# Altium schematic symbol library AMZ_Altium_Lib.SchLib: 396 symbols (part 3 of 3)
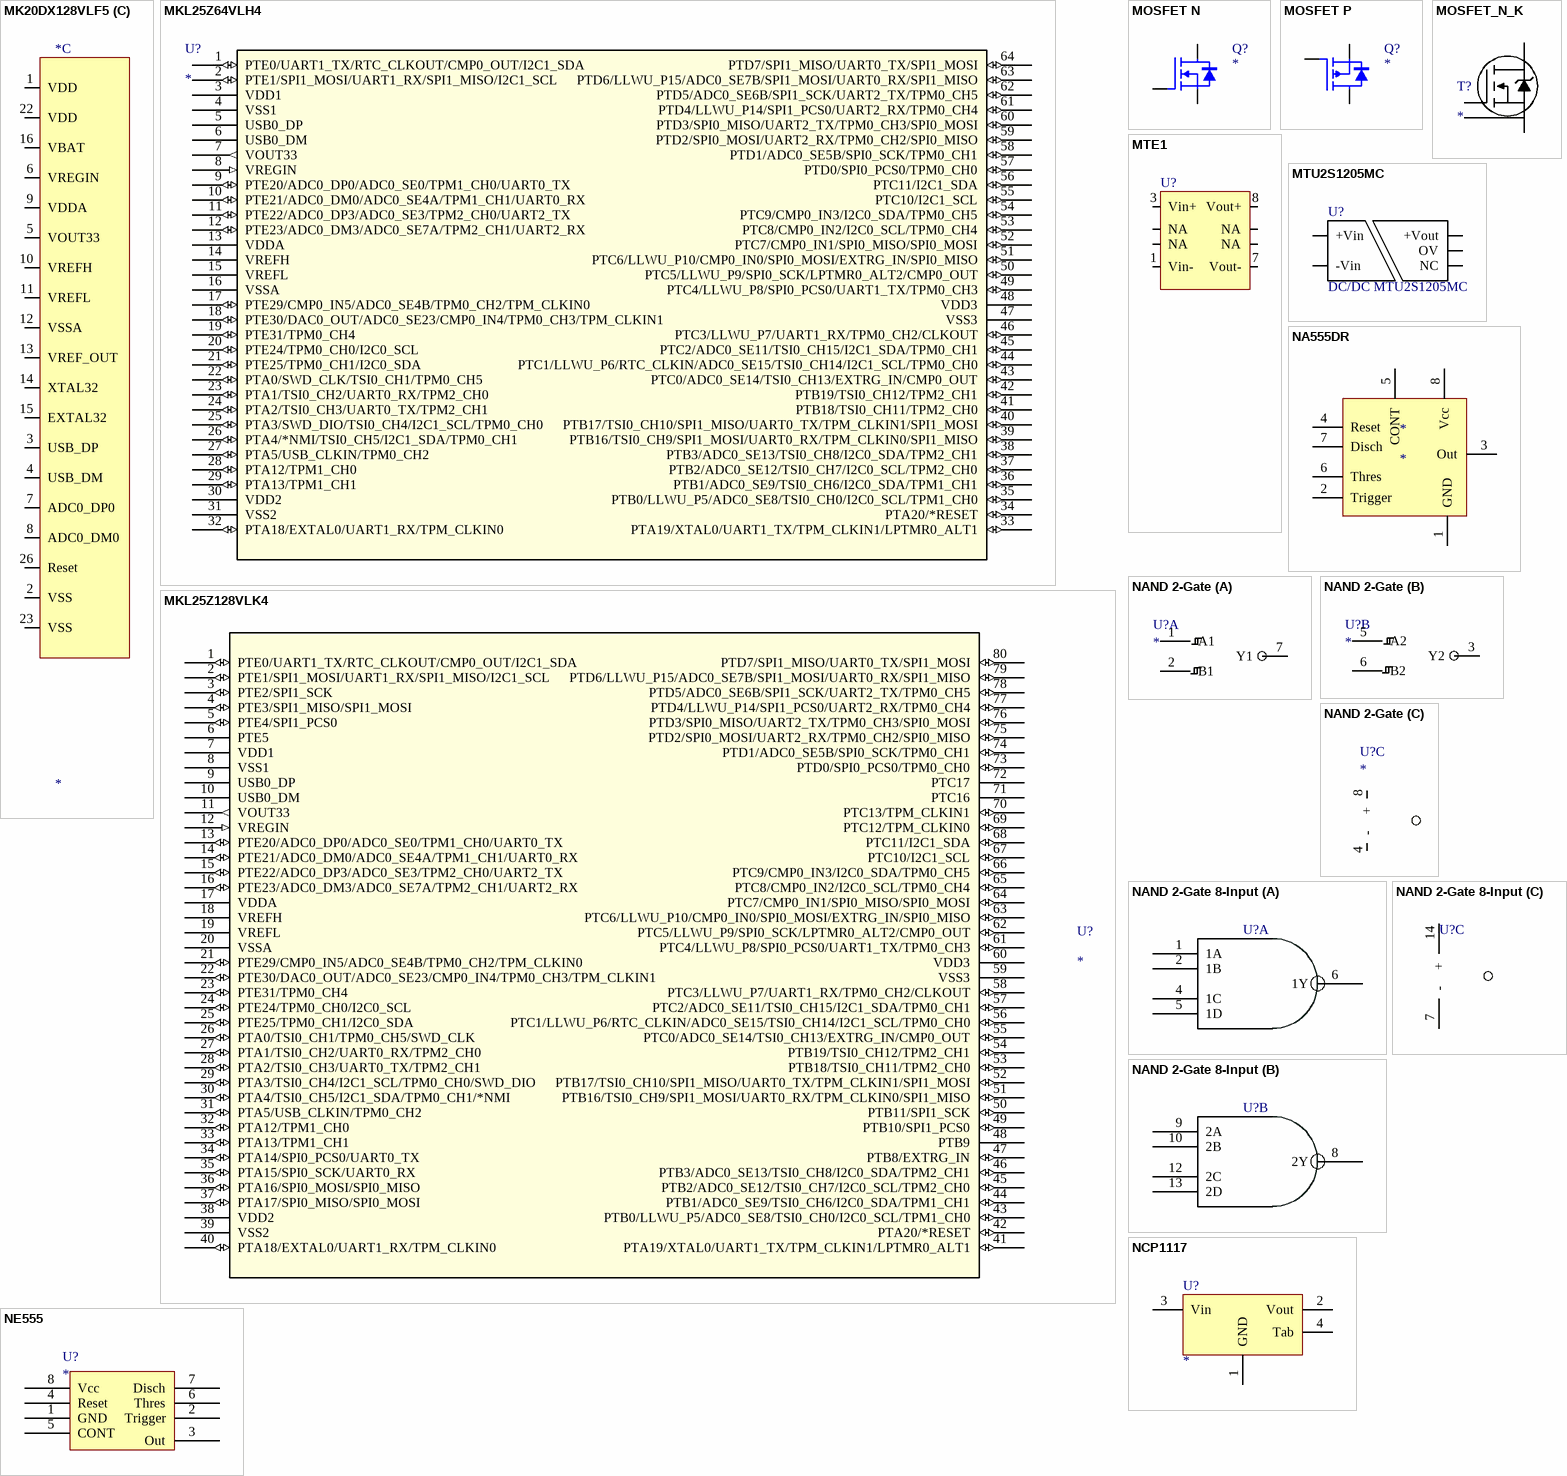
[diagram p21: symbols MK20DX128VLF5 to NE555]

## MKL25Z128VLK4
designator U?
Imported; Manufacturer_Part_Number: mkl25z128vlk4; Vendor: FREESCALE; CPU: ARM Cortex-M0+; Max_Frequency: 48; Flash_KB: 128; SRAM_KB: 16; Pin_Count: 80; Package: LQFP; RefDes: RefDes; Type: Type; Value: Value
footprint 98ASS23174W
pins: 1 PTE0/UART1_TX/RTC_CLKOUT/CMP0_OUT/I2C1_SDA (io), 2 PTE1/SPI1_MOSI/UART1_RX/SPI1_MISO/I2C1_SCL (io), 3 PTE2/SPI1_SCK (io), 4 PTE3/SPI1_MISO/SPI1_MOSI (io), 5 PTE4/SPI1_PCS0 (io), 6 PTE5, 7 VDD1 (power), 8 VSS1 (power), 9 USB0_DP, 10 USB0_DM, 11 VOUT33 (out), 12 VREGIN (in), 13 PTE20/ADC0_DP0/ADC0_SE0/TPM1_CH0/UART0_TX (io), 14 PTE21/ADC0_DM0/ADC0_SE4A/TPM1_CH1/UART0_RX (io), 15 PTE22/ADC0_DP3/ADC0_SE3/TPM2_CH0/UART2_TX (io), 16 PTE23/ADC0_DM3/ADC0_SE7A/TPM2_CH1/UART2_RX (io), 17 VDDA (power), 18 VREFH (power), 19 VREFL (power), 20 VSSA (power), 21 PTE29/CMP0_IN5/ADC0_SE4B/TPM0_CH2/TPM_CLKIN0 (io), 22 PTE30/DAC0_OUT/ADC0_SE23/CMP0_IN4/TPM0_CH3/TPM_CLKIN1 (io), 23 PTE31/TPM0_CH4 (io), 24 PTE24/TPM0_CH0/I2C0_SCL (io), 25 PTE25/TPM0_CH1/I2C0_SDA (io), 26 PTA0/TSI0_CH1/TPM0_CH5/SWD_CLK (io), 27 PTA1/TSI0_CH2/UART0_RX/TPM2_CH0 (io), 28 PTA2/TSI0_CH3/UART0_TX/TPM2_CH1 (io), 29 PTA3/TSI0_CH4/I2C1_SCL/TPM0_CH0/SWD_DIO (io), 30 PTA4/TSI0_CH5/I2C1_SDA/TPM0_CH1/*NMI (io), 31 PTA5/USB_CLKIN/TPM0_CH2 (io), 32 PTA12/TPM1_CH0 (io), 33 PTA13/TPM1_CH1 (io), 34 PTA14/SPI0_PCS0/UART0_TX (io), 35 PTA15/SPI0_SCK/UART0_RX (io), 36 PTA16/SPI0_MOSI/SPI0_MISO (io), 37 PTA17/SPI0_MISO/SPI0_MOSI (io), 38 VDD2 (power), 39 VSS2 (power), 40 PTA18/EXTAL0/UART1_RX/TPM_CLKIN0 (io), 41 PTA19/XTAL0/UART1_TX/TPM_CLKIN1/LPTMR0_ALT1 (io), 42 PTA20/*RESET (io), 43 PTB0/LLWU_P5/ADC0_SE8/TSI0_CH0/I2C0_SCL/TPM1_CH0 (io), 44 PTB1/ADC0_SE9/TSI0_CH6/I2C0_SDA/TPM1_CH1 (io), 45 PTB2/ADC0_SE12/TSI0_CH7/I2C0_SCL/TPM2_CH0 (io), 46 PTB3/ADC0_SE13/TSI0_CH8/I2C0_SDA/TPM2_CH1 (io), 47 PTB8/EXTRG_IN (io), 48 PTB9, 49 PTB10/SPI1_PCS0 (io), 50 PTB11/SPI1_SCK (io), 51 PTB16/TSI0_CH9/SPI1_MOSI/UART0_RX/TPM_CLKIN0/SPI1_MISO (io), 52 PTB17/TSI0_CH10/SPI1_MISO/UART0_TX/TPM_CLKIN1/SPI1_MOSI (io), 53 PTB18/TSI0_CH11/TPM2_CH0 (io), 54 PTB19/TSI0_CH12/TPM2_CH1 (io), 55 PTC0/ADC0_SE14/TSI0_CH13/EXTRG_IN/CMP0_OUT (io), 56 PTC1/LLWU_P6/RTC_CLKIN/ADC0_SE15/TSI0_CH14/I2C1_SCL/TPM0_CH0 (io), 57 PTC2/ADC0_SE11/TSI0_CH15/I2C1_SDA/TPM0_CH1 (io), 58 PTC3/LLWU_P7/UART1_RX/TPM0_CH2/CLKOUT (io), 59 VSS3 (power), 60 VDD3 (power), 61 PTC4/LLWU_P8/SPI0_PCS0/UART1_TX/TPM0_CH3 (io), 62 PTC5/LLWU_P9/SPI0_SCK/LPTMR0_ALT2/CMP0_OUT (io), 63 PTC6/LLWU_P10/CMP0_IN0/SPI0_MOSI/EXTRG_IN/SPI0_MISO (io), 64 PTC7/CMP0_IN1/SPI0_MISO/SPI0_MOSI (io), 65 PTC8/CMP0_IN2/I2C0_SCL/TPM0_CH4 (io), 66 PTC9/CMP0_IN3/I2C0_SDA/TPM0_CH5 (io), 67 PTC10/I2C1_SCL (io), 68 PTC11/I2C1_SDA (io), 69 PTC12/TPM_CLKIN0 (io), 70 PTC13/TPM_CLKIN1 (io), 71 PTC16, 72 PTC17, 73 PTD0/SPI0_PCS0/TPM0_CH0 (io), 74 PTD1/ADC0_SE5B/SPI0_SCK/TPM0_CH1 (io), 75 PTD2/SPI0_MOSI/UART2_RX/TPM0_CH2/SPI0_MISO (io), 76 PTD3/SPI0_MISO/UART2_TX/TPM0_CH3/SPI0_MOSI (io), 77 PTD4/LLWU_P14/SPI1_PCS0/UART2_RX/TPM0_CH4 (io), 78 PTD5/ADC0_SE6B/SPI1_SCK/UART2_TX/TPM0_CH5 (io), 79 PTD6/LLWU_P15/ADC0_SE7B/SPI1_MOSI/UART0_RX/SPI1_MISO (io), 80 PTD7/SPI1_MISO/UART0_TX/SPI1_MOSI (io)

## MOSFET N
designator Q?
footprint SON3x3 (VSON-CLIP (DQG))
footprint SON5x6 (VSONP (DQJ))
pins: D DRAIN, G GATE, S SOURCE

## MOSFET P
designator Q?
pins: D DRAIN, G GATE, S SOURCE

## MOSFET_N_K
designator T?
footprint TO-247-4
footprint TO-247-4_Cree (4 Lead TO-247 with Kelvin source connection)
footprint TO-247-4_Cree_3mm (4 Lead TO-247 with Kelvin source connection, Leads shortened to 3mm)
pins: D, G, K, S

## MTE1
designator U?
footprint MTE1
pins: 1 Vin-, 3 Vin+, 5 NA, 7 Vout-, 8 Vout+, 10 NA, 12 NA, 14 NA

## MTU2S1205MC
designator U?, comment DC/DC MTU2S1205MC
Isolated 2W Single & Dual Output SM DC/DC Converters; ComponentLink1Description: Datasheet; ComponentLink1URL: https://power.murata.com/data/power/ncl/kdc_mtu2.pdf
pins: 1 +Vin (power), 3 -Vin (power), 4 NC (power), 5 OV, 6 +Vout (power)

## NA555DR
designator *
footprint SOIC-8-T (Exposed Thermal Pad)
pins: 1 GND, 2 Trigger, 3 Out, 4 Reset, 5 CONT, 6 Thres, 7 Disch, 8 Vcc

## NAND 2-Gate
designator U?
part A pins: 1 A1, 2 B1, 7 Y1
part B pins: 3 Y2, 5 A2, 6 B2
part C pins: 4 -, 8 +

## NAND 2-Gate 8-Input
designator U?, comment SN74F20D  (value not drawn)
NAND 8 input 2 output
footprint SOIC-14
part A pins: 1 1A, 2 1B, 4 1C, 5 1D, 6 1Y
part B pins: 8 2Y, 9 2A, 10 2B, 12 2C, 13 2D
part C pins: 7 -, 14 +

## NCP1117
designator U?
Voltage Regulator, Linear Regler
footprint SOT-223-3
pins: 1 GND (power), 2 Vout (power), 3 Vin (power), 4 Tab (power)

## NE555
designator U?
pins: 1 GND, 2 Trigger, 3 Out, 4 Reset, 5 CONT, 6 Thres, 7 Disch, 8 Vcc

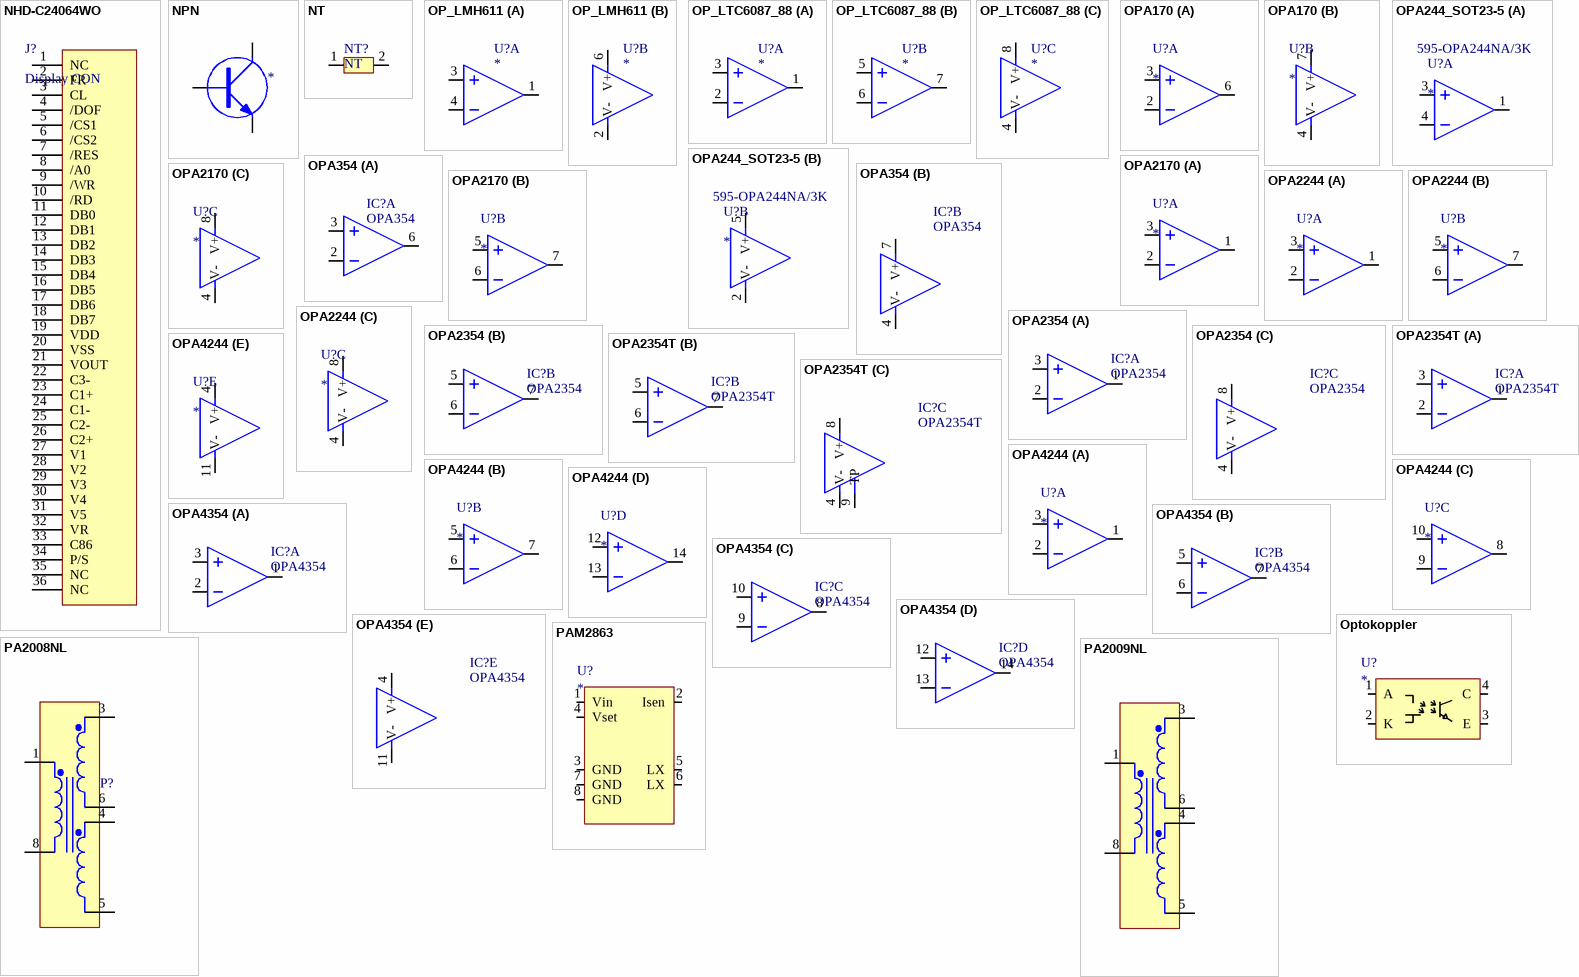
[diagram p15: symbols NHD-C24064WO to PAM2863]

## NHD-C24064WO
designator J?, comment Display CON
NHD-C24064WO
footprint CON_54132-3633 (FFC/FPC Connector)
pins: 1 NC, 2 FR, 3 CL, 4 /DOF, 5 /CS1, 6 /CS2, 7 /RES, 8 /A0, 9 /WR, 10 /RD, 11 DB0, 12 DB1, 13 DB2, 14 DB3, 15 DB4, 16 DB5, 17 DB6, 18 DB7, 19 VDD, 20 VSS, 21 VOUT, 22 C3-, 23 C1+, 24 C1-, 25 C2-, 26 C2+, 27 V1, 28 V2, 29 V3, 30 V4, 31 V5, 32 VR, 33 C86, 34 P/S, 35 NC, 36 NC

## NPN
designator ?
footprint SOT-23; pin to pad B>1 C>3 E>2
pins: B, C, E

## NT
designator NT?  (net tie, no BOM)
Net Tie
footprint NT_5mil_10mil (Net tie, width 5mil, length 10mil)
footprint NT_8mil_16mil (Net tie, width 8mil, length 16mil)
footprint NT_10mil_20mil (Net tie, width 10mil, length 20mil)
footprint NT_10mil_40mil (Net tie, width 10mil, length 40mil)
footprint NT_15mil_30mil (Net tie, width 15mil, length 30mil)
footprint NT_20mil_40mil (Net tie, width 20mil, length 40mil)
footprint NT_20mil_50mil (Net tie, width 20mil, length 50mil)
footprint NT_50mil_100mil (Net tie, width 50mil, length 100mil)
footprint NT_100mil_200_mil (Net tie, width 100mil, length 200mil)
pins: 1, 2

## OP_LMH611
designator U?
LMH6611
footprint SOT23-6
part A pins: 1 Out D, 3 +In D, 4 -In D
part B pins: 2 V-, 6 V+

## OP_LTC6087_88
designator U?
OPAx170  36-V, Single-Supply,  SOT553,  Low-Power  Operational  Amplifiers  Value Line Series
footprint MSOP-8-0.65
part A pins: 1 Out A, 2 -In A, 3 +In A
part B pins: 5 +In B, 6 -In B, 7 Out B
part C pins: 4 V-, 8 V+

## OPA170
designator U?
OPA170
footprint SO-8
part A pins: 2 -In D, 3 +In D, 6 Out D
part B pins: 4 V-, 7 V+

## OPA244_SOT23-5
designator U?  Supplier Part Number 1: 595-OPA244NA/3K
Single OPERATIONAL AMPLIFIERS, Single Supply: 2.2V to 36V; Supplier 1: Mouser
footprint SOT23-5
part A pins: 1 Out D, 3 +In D, 4 -In D
part B pins: 2 V-, 5 V+

## OPA354
designator IC?
footprint DGK-8 (Exposed Thermal Pad)
part A pins: 2 -In A, 3 +In A, 6 Out A
part B pins: 4 V-, 7 V+

## OPA2170
designator U?
OPAx170  36-V, Single-Supply,  SOT553,  Low-Power  Operational  Amplifiers  Value Line Series
footprint SO-8
part A pins: 1 Out D, 2 -In D, 3 +In D
part B pins: 5 +In D, 6 -In D, 7 Out D
part C pins: 4 V-, 8 V+

## OPA2244
designator U?
Dual OPERATIONAL AMPLIFIERS, Single Supply: 2.2V to 36V,  Dual Supply: ±1.1V to ±18V
footprint SO-8
part A pins: 1 Out D, 2 -In D, 3 +In D
part B pins: 5 +In D, 6 -In D, 7 Out D
part C pins: 4 V-, 8 V+

## OPA2354
designator IC?
footprint DGK-8 (Exposed Thermal Pad)
part A pins: 1 Out A, 2 -In A, 3 +In A
part B pins: 5 -In B, 6 - In B, 7 Out B
part C pins: 4 V-, 8 V+

## OPA2354T
designator IC?
footprint SOIC-8-T (Exposed Thermal Pad)
part A pins: 1 Out A, 2 -In A, 3 +In A
part B pins: 5 -In B, 6 - In B, 7 Out B
part C pins: 4 V-, 8 V+, 9 TP

## OPA4244
designator U?
Quad OPERATIONAL AMPLIFIERS, Single Supply: 2.2V to 36V,  Dual Supply: ±1.1V to ±18V
footprint TSSOP14
part A pins: 1 Out A, 2 -In A, 3 +In A
part B pins: 5 +In B, 6 -In B, 7 Out B
part C pins: 8 Out C, 9 -In C, 10 +In C
part D pins: 12 +In D, 13 -In D, 14 Out D
part E pins: 4 V+, 11 V-

## OPA4354
designator IC?
footprint SO-14
part A pins: 1 Out A, 2 -In A, 3 +In A
part B pins: 5 -In B, 6 - In B, 7 Out B
part C pins: 8 OUT C, 9 - IN C, 10 +IN C
part D pins: 12 +In D, 13 -In D, 14 Out D
part E pins: 4 V+, 11 V-

## Optokoppler
designator U?
footprint HMH2801
pins: 1 A, 2 K, 3 E, 4 C

## PA2008NL
designator P?
2:1:1 High Isolation Power Transformer; ComponentLink1Description: Datasheet; ComponentLink1URL: https://productfinder.pulseeng.com/product/PA2009NL
footprint PA2009NL (PA2009NL Footprint)
pins: 1 Pri+, 3 Sec+, 4 SecMid, 5 Sec-, 6 SecMid, 8 Pri-

## PA2009NL
designator P?
2.5:1:1 High Isolation Power Transformer; ComponentLink1Description: Datasheet; ComponentLink1URL: https://productfinder.pulseeng.com/product/PA2009NL
footprint PA2009NL (PA2009NL Footprint)
pins: 1 Pri+, 3 Sec+, 4 SecMid, 5 Sec-, 6 SecMid, 8 Pri-

## PAM2863
designator U?
2A LED Driver
footprint SO8
pins: 1 Vin, 2 Isen, 3 GND, 4 Vset, 5 LX, 6 LX, 7 GND, 8 GND

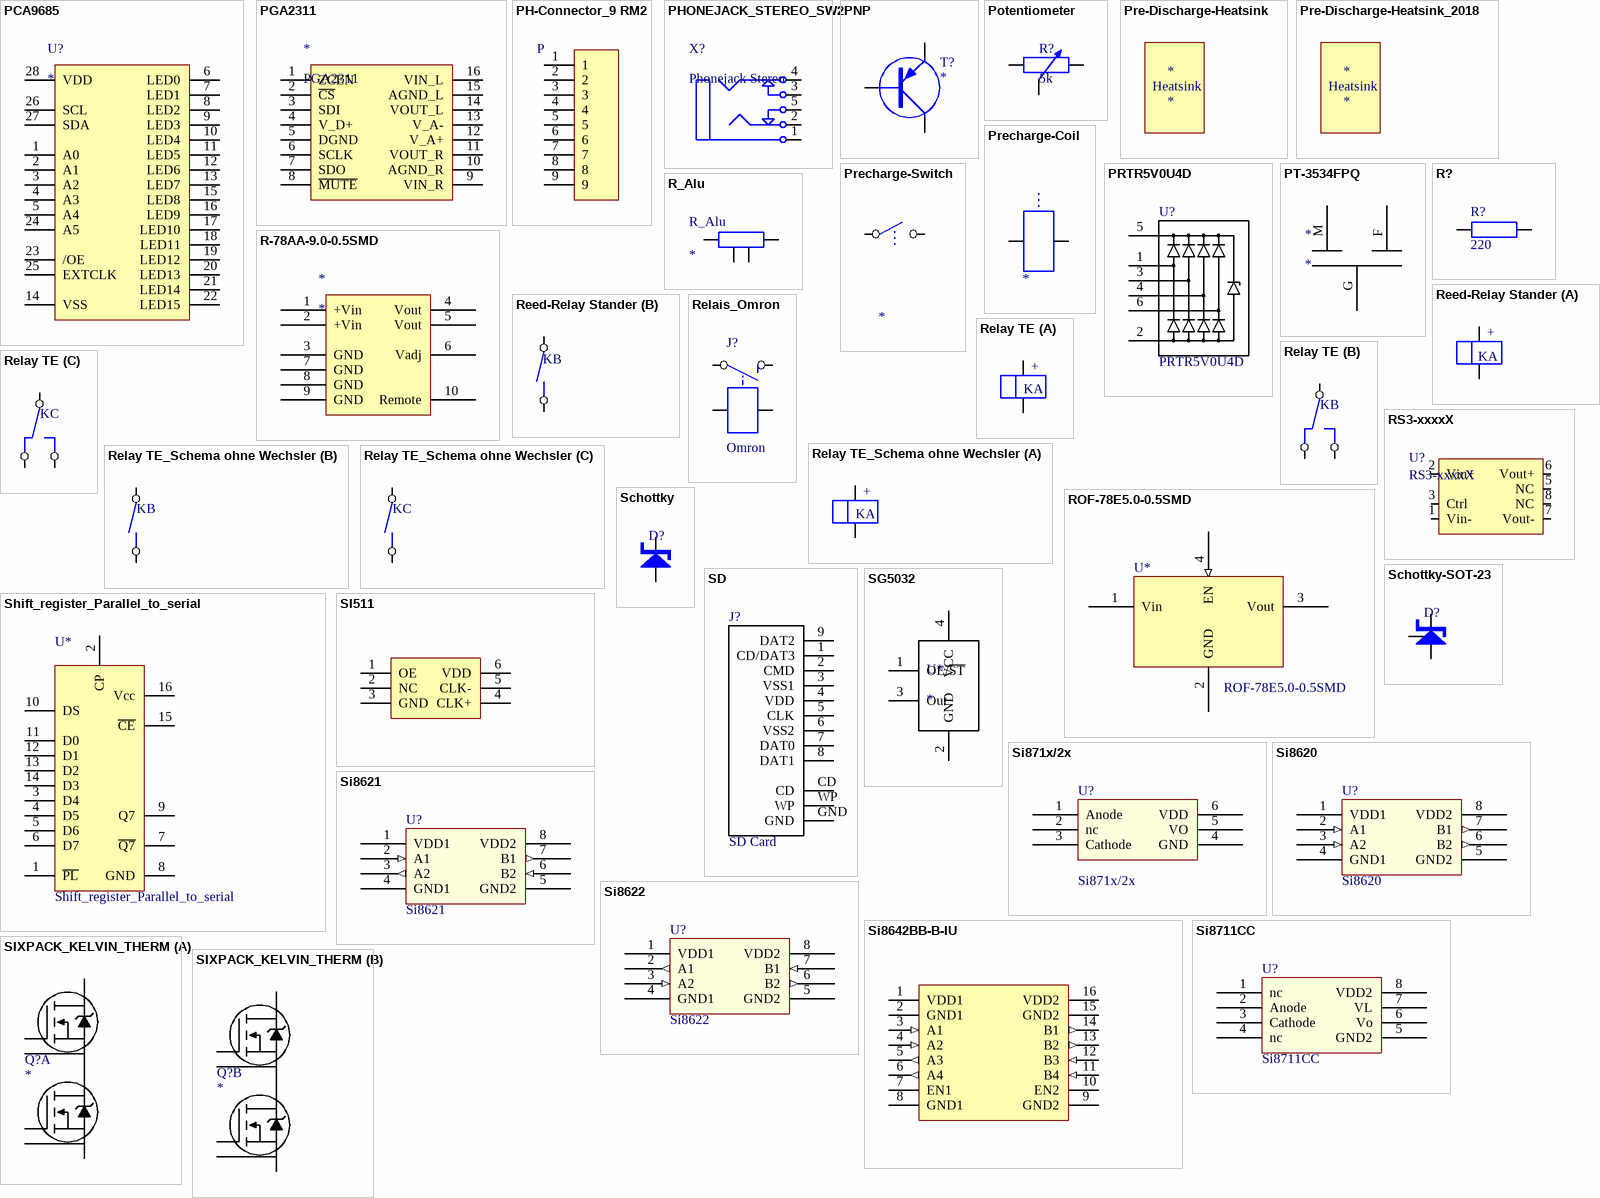
[diagram p16: symbols PCA9685 to SIXPACK_KELVIN_THERM]

## PCA9685
designator U?
pins: 1 A0, 2 A1, 3 A2, 4 A3, 5 A4, 6 LED0, 7 LED1, 8 LED2, 9 LED3, 10 LED4, 11 LED5, 12 LED6, 13 LED7, 14 VSS, 15 LED8, 16 LED9, 17 LED10, 18 LED11, 19 LED12, 20 LED13, 21 LED14, 22 LED15, 23 /OE, 24 A5, 25 EXTCLK, 26 SCL, 27 SDA, 28 VDD

## PGA2311
designator *
Stereo Audio Volume Control
footprint SOL-16
pins: 1 ZCEN, 2 ~{CS}, 3 SDI, 4 V_D+, 5 DGND, 6 SCLK, 7 SDO, 8 ~{MUTE}, 9 VIN_R, 10 AGND_R, 11 VOUT_R, 12 V_A+, 13 V_A-, 14 VOUT_L, 15 AGND_L, 16 VIN_L

## PH-Connector_9 RM2
designator P  (value not drawn)
JST-PH-Connector 7-pol (Handlager)
footprint PHS_9 (JST-PHConnector 9pol RM2 (Handlager))
pins: 1, 2, 3, 4, 5, 6, 7, 8, 9

## PHONEJACK_STEREO_SW2
designator X?, comment Phonejack Stereo
footprint PHONEJACK_STEREO_SW2; pin to pad 2>5 5>2
pins: 1, 2, 3, 4, 5

## PNP
designator T?
pins: B, C, E

## Potentiometer
designator R?, comment 5k
Std. Poti HSLU
footprint Potentiometer (Std Potis HSLU)
pins: 1, 2, 3

## Pre-Discharge-Heatsink
designator *
footprint Pre-Discharge-Heatsink
text: Heatsink

## Pre-Discharge-Heatsink_2018
designator *
footprint Pre-Discharge-Heatsink_2018
text: Heatsink

## Precharge-Coil
designator ?
pins: 3, 4

## Precharge-Switch
designator ?
pins: 1, 2

## PRTR5V0U4D
designator U?
Ultra low capacitance quadruple rail-to-rail ESD protection
footprint SOT457
pins: 1, 2, 3, 4, 5, 6

## PT-3534FPQ
designator *
pins: F, G, M

## R-78AA-9.0-0.5SMD
designator *
pins: 1 +Vin (power), 2 +Vin (power), 3 GND (power), 4 Vout (power), 5 Vout (power), 6 Vadj (power), 7 GND (power), 8 GND (power), 9 GND (power), 10 Remote (power)

## R?
designator R?, comment 220
Normaler Widerstand
footprint 0805
footprint MMB0207 (MELF MMB0207)
footprint MMA0204 (MINIMELF MMA0204)
footprint MMU0102 (MICROMELF MMU0102)
footprint 1206
footprint 1210
footprint R_0603_S
pins: 1, 2

## R_Alu
designator R_Alu
pins: 1, 2, 3, 4

## Reed-Relay Stander
designator K, comment MT2-C93402  (value not drawn)
2*Wechsler
footprint Reed-Relay (Stander Reed-Relay)
part A pins: 1, 2
part B pins: 3, 4
part A text: +

## Relais_Omron
designator J?, comment Omron
footprint Mini_Relay
pins: 2, 4, 5, 8

## Relay TE
designator K, comment MT2-C93402  (value not drawn)
2*Wechsler
footprint Relais_TE_SMD
part A pins: 1, 8
part B pins: 2, 3, 4
part C pins: 5, 6, 7
part A text: +

## Relay TE_Schema ohne Wechsler
designator K, comment MT2-C93402  (value not drawn)
2*Wechsler
footprint Relais_TE_SMD
part A pins: 1, 8
part B pins: 3, 4
part C pins: 5, 6
part A text: +

## ROF-78E5.0-0.5SMD
designator U*
footprint ROF-78EXX-0.5SMD
pins: 1 Vin (power), 2 GND (power), 3 Vout (power), 4 EN (in)

## RS3-xxxxX
designator U?
DC/DC Converter 3 Watt SIP8 Isolated Single & Dual Output RECOM
footprint RS3-xxxxX (DC/DC Converter 3 Watt SIP8 Isolated Single & Dual Output RECOM)
pins: 1 Vin-, 2 Vin+, 3 Ctrl, 5 NC, 6 Vout+, 7 Vout-, 8 NC

## Schottky
designator D?, comment D?  (value not drawn)
footprint SOD-128
pins: A, K

## Schottky-SOT-23
designator D?, comment D?  (value not drawn)
footprint SOT-23; pin to pad A>1 K>3 NC>2
pins: A, K, NC

## SD
designator J?, comment SD Card
footprint SD_WE_693 061 010 911 (SD Card Connector - Push & Push - With Card Detection 9 pins)
footprint SD_WE_693 063 010 911 (SD Card Connector - Push & Pull - With Card Detection 9 pins)
pins: 1 CD/DAT3, 2 CMD, 3 VSS1, 4 VDD, 5 CLK, 6 VSS2, 7 DAT0, 8 DAT1, 9 DAT2, CD, GND, WP

## SG5032
designator U*
Epson CRYSTAL OSCILLATOR (SPXO)
footprint SG5032 (Epson CRYSTAL OSCILLATOR (SPXO))
pins: 1 OE/~{ST}, 2 GND, 3 Out, 4 VCC

## Shift_register_Parallel_to_serial
designator U*
74LV165A
footprint SOT403-1
pins: 1 ~{PL}, 2 CP, 3 D4, 4 D5, 5 D6, 6 D7, 7 ~{Q7}, 8 GND, 9 Q7, 10 DS, 11 D0, 12 D1, 13 D2, 14 D3, 15 ~{CE}, 16 Vcc

## SI511
designator P?
CRYSTAL OSCILLATOR (XO)100 kH TO 250 MH; ComponentLink1Description: Datasheet; ComponentLink1URL: https://www.silabs.com/documents/public/data-sheets/si510-11.pdf
footprint Si511 (Packaging of the Si511 Oszillator)
pins: 1 OE, 2 NC, 3 GND, 4 CLK+, 5 CLK-, 6 VDD

## Si871x/2x
designator U?
5KV LED EMULATOR INPUT, LOGIC OUTPUT ISOLATORS; ComponentLink1Description: Datasheet; ComponentLink1URL: https://www.silabs.com/documents/public/data-sheets/Si871x-2x.pdf
pins: 1 Anode, 2 nc, 3 Cathode, 4 GND, 5 VO, 6 VDD (oc)

## Si8620
designator U?
5 kV RMS Low Power Dual Digital Isolators
footprint SOIC8
pins: 1 VDD1, 2 A1 (in), 3 A2 (in), 4 GND1, 5 GND2, 6 B2 (out), 7 B1 (out), 8 VDD2

## Si8621
designator U?
5 kV RMS Low Power Dual Digital Isolators
footprint SOIC8
pins: 1 VDD1, 2 A1 (in), 3 A2 (out), 4 GND1, 5 GND2, 6 B2 (in), 7 B1 (out), 8 VDD2

## Si8622
designator U?
5 kV RMS Low Power Dual Digital Isolators
footprint SOIC8
pins: 1 VDD1, 2 A1 (out), 3 A2 (in), 4 GND1, 5 GND2, 6 B2 (out), 7 B1 (in), 8 VDD2

## Si8642BB-B-IU
designator P?
Low-Power Quad-Channel Digital Isolators / Footprint: QSOP16; ComponentLink1Description: Datasheet; ComponentLink1URL: https://www.silabs.com/documents/public/data-sheets/si864x-datasheet.pdf
footprint HEADER_84_versetzt (Header 84 Pin 100mil)
pins: 1 VDD1, 2 GND1, 3 A1 (in), 4 A2 (in), 5 A3 (out), 6 A4 (out), 7 EN1, 8 GND1, 9 GND2, 10 EN2, 11 B4 (in), 12 B3 (in), 13 B2 (out), 14 B1 (out), 15 GND2, 16 VDD2

## Si8711CC
designator U?
5kV LED Emulator Input, Open-Collector Output Isolators
footprint SOIC8
pins: 1 nc, 2 Anode, 3 Cathode, 4 nc, 5 GND2, 6 Vo (oc), 7 VL, 8 VDD2

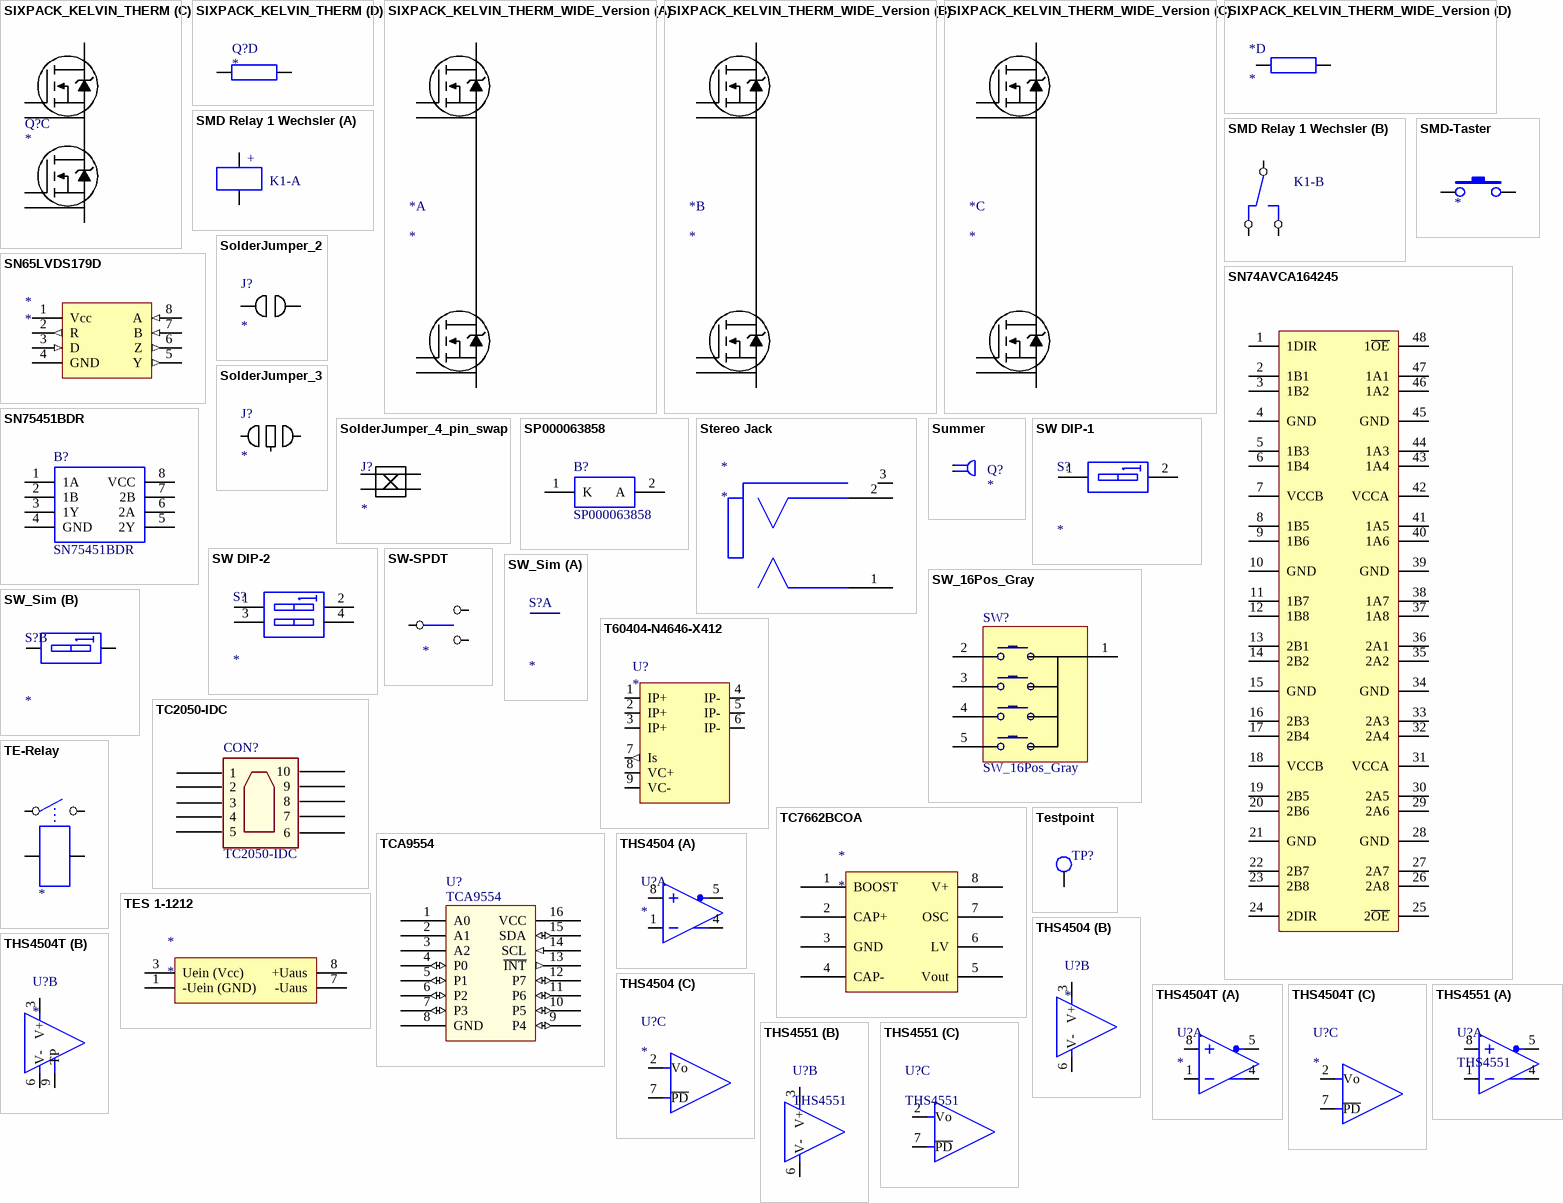
[diagram p17: symbols SIXPACK_KELVIN_THERM to THS4551]

## SIXPACK_KELVIN_THERM
designator Q?
Sixpack power module with kelvin source and thermistor
footprint VINCOTECH_10-PYxx6PA (Vincotech Flow 1 Pressfit 12mm Sixpack Power Module); pin to pad DC+_A>17 DC+_A_2>18 DC+_B>7 DC+_B_2>8 DC+_C>5 DC+_C_2>6 DC-_A>13 DC-_A_2>14 DC-_B>11 DC-_B_2>12 DC-_C>1 DC-_C_2>2 G_H_A>24 G_H_B>28 G_H_C>32 G_L_A>15 G_L_B>9 G_L_C>3 PH_A>21 PH_A_2>22 PH_A_3>none PH_B>25 PH_B_2>26 PH_B_3>none PH_C>29 PH_C_2>30 PH_C_3>none S_H_A>23 S_H_B>27 S_H_C>31 S_L_A>16 S_L_B>10 S_L_C>4 TH+>20 TH->19
footprint VINCOTECH_10-PYxx6P?_I1 (Vincotech Flow 1 Pressfit 12mm Sixpack Power Module Custom Pinout for I1); pin to pad DC+_A>13 DC+_A_2>14 DC+_B>none DC+_B_2>none DC+_C>30 DC+_C_2>31 DC-_A>11 DC-_A_2>12 DC-_B>none DC-_B_2>none DC-_C>1 DC-_C_2>2 G_H_A>19 G_H_B>24 G_H_C>26 G_L_A>9 G_L_B>7 G_L_C>3 PH_A>15 PH_A_2>16 PH_A_3>17 PH_B>20 PH_B_2>21 PH_B_3>22 PH_C>27 PH_C_2>28 PH_C_3>29 S_H_A>18 S_H_B>23 S_H_C>25 S_L_A>10 S_L_B>8 S_L_C>4 TH+>5 TH->6
part A pins: DC+_A "DC Link positive Phase A", DC+_A_2 DC+_A "DC Link positive Phase A", DC-_A "DC Link negative Phase A", DC-_A_2 DC-_A "DC Link negative Phase A", G_H_A "Gate High Side Phase A", G_L_A "Gate Low Side Phase A", PH_A "Phase A", PH_A_2 PH_A "Phase A", PH_A_3 PH_A "Phase A", S_H_A "Source High Side Phase A", S_L_A "Source Low Side Phase A"
part B pins: DC+_B "DC Link positive Phase B", DC+_B_2 DC+_B "DC Link positive Phase B", DC-_B "DC Link negative Phase B", DC-_B_2 DC-_B "DC Link negative Phase B", G_H_B "Gate High Side Phase B", G_L_B "Gate Low Side Phase B", PH_B "Phase B", PH_B_2 PH_B "Phase B", PH_B_3 PH_B "Phase B", S_H_B "Source High Side Phase B", S_L_B "Source Low Side Phase B"
part C pins: DC+_C "DC Link positive Phase C", DC+_C_2 DC+_C "DC Link positive Phase C", DC-_C "DC Link negative Phase C", DC-_C_2 DC-_C "DC Link negative Phase C", G_H_C "Gate High Side Phase C", G_L_C "Gate Low Side Phase C", PH_C "Phase C", PH_C_2 PH_C "Phase C", PH_C_3 PH_C "Phase C", S_H_C "Source High Side Phase C", S_L_C "Source Low Side Phase C"
part D pins: TH+ "Thermistor positive", TH- "Thermistor negative"

## SIXPACK_KELVIN_THERM_WIDE_Version
designator *
footprint VINCOTECH_10-PYxx6P?_I1 (Vincotech Flow 1 Pressfit 12mm Sixpack Power Module Custom Pinout for I1)
footprint VINCOTECH_10-PYxx6PA (Vincotech Flow 1 Pressfit 12mm Sixpack Power Module)
part A pins: 1 DC-_A "DC Link negative Phase A", 2 DC-_A "DC Link negative Phase A", 9 G_L_A "Gate Low Side Phase A", 10 S_L_A "Source Low Side Phase A", 13 DC+_A "DC Link positive Phase A", 14 DC+_A "DC Link positive Phase A", 15 PH_A "Phase A", 16 PH_A "Phase A", 17 PH_A "Phase A", 18 S_H_A "Source High Side Phase A", 19 G_H_A "Gate High Side Phase A"
part B pins: 7 G_L_B "Gate Low Side Phase B", 8 S_L_B "Source Low Side Phase B", 11 DC-_B "DC Link negative Phase B", 12 DC-_B "DC Link negative Phase B", 20 PH_B "Phase B", 21 PH_B "Phase B", 22 PH_B "Phase B", 23 S_H_B "Source High Side Phase B", 24 G_H_B "Gate High Side Phase B", 30 DC+_B "DC Link positive Phase B", 31 DC+_B "DC Link positive Phase B"
part C pins: 1 DC-_C "DC Link negative Phase C", 2 DC-_C "DC Link negative Phase C", 3 G_L_C "Gate Low Side Phase C", 4 S_L_C "Source Low Side Phase C", 13 DC+_C "DC Link positive Phase C", 14 DC+_C "DC Link positive Phase C", 25 S_H_C "Source High Side Phase C", 26 G_H_C "Gate High Side Phase C", 27 PH_C "Phase C", 28 PH_C "Phase C", 29 PH_C "Phase C"
part D pins: 5 TH+ "Thermistor positive", 6 TH- "Thermistor negative"

## SMD Relay 1 Wechsler
designator K1-, comment MT2-C93402  (value not drawn)
TE-Relay SMD, 12V, 1 Wechsler, PN: 1462042-3
footprint Relais_TE_SMD
part A pins: 1, 8
part B pins: 3, 5, 7
part A text: +

## SMD-Taster
designator ?
footprint SMD Taster
pins: 1, 2

## SN65LVDS179D
designator *
footprint SO-8
pins: 1 Vcc, 2 R (out), 3 D (in), 4 GND, 5 Y (out), 6 Z (out), 7 B (in), 8 A (in)

## SN74AVCA164245
designator P?
16-BIT / DUAL-SUPPLY / BUS / TRANSCEIVER / WITH / CONFIGURABLE / VOLTAGE / TRANSLATION / AND / 3-STATE / OUTPUTS; ComponentLink1Description: Datasheet; ComponentLink1URL: http://www.ti.com/lit/ds/symlink/sn74avca164245.pdf
footprint HEADER_84_versetzt (Header 84 Pin 100mil)
pins: 1 1DIR, 2 1B1, 3 1B2, 4 GND, 5 1B3, 6 1B4, 7 VCCB, 8 1B5, 9 1B6, 10 GND, 11 1B7, 12 1B8, 13 2B1, 14 2B2, 15 GND, 16 2B3, 17 2B4, 18 VCCB, 19 2B5, 20 2B6, 21 GND, 22 2B7, 23 2B8, 24 2DIR, 25 2~{OE}, 26 2A8, 27 2A7, 28 GND, 29 2A6, 30 2A5, 31 VCCA, 32 2A4, 33 2A3, 34 GND, 35 2A2, 36 2A1, 37 1A8, 38 1A7, 39 GND, 40 1A6, 41 1A5, 42 VCCA, 43 1A4, 44 1A3, 45 GND, 46 1A2, 47 1A1, 48 1~{OE}

## SN75451BDR
designator B?
Dual Very-High Speed, High-Current Peripheral Drivers; Manufacturer_Name: Texas Instruments; Geometry.Height: 1.75mm; Manufacturer_Part_Number: SN75451BDR; RS Part Number: 6624015P; RS Price/Stock: http://uk.rs-online.com/web/p/products/6624015P; Mouser Part Number: 595-SN75451BDR; Mouser Price/Stock: https://www.mouser.com/Search/Refine.aspx?Keyword=595-SN75451BDR; Datasheet Link: http://www.ti.com/lit/gpn/sn75451b; ComponentLink1Description: Datasheet; ComponentLink1URL: http://www.ti.com/lit/ds/symlink/sn75452b.pdf
footprint SOIC127P600X175-8N
pins: 1 1A, 2 1B, 3 1Y, 4 GND, 5 2Y, 6 2A, 7 2B, 8 VCC

## SolderJumper_2
designator J?
footprint Solder_Jumper_2pin_0.2mm (Solder jumper with two pins with a spacing of 0.2mm)
footprint Solder_Jumper_2pin_0.3mm - duplicate (Solder jumper with two pins with a spacing of 0.3mm)
pins: 1, 2

## SolderJumper_3
designator J?
footprint Solder_Jumper_3pin_0.2mm (Solder jumper with three pins with a spacing of 0.2mm)
footprint Solder_Jumper_3pin_0.3mm (Solder jumper with three pins with a spacing of 0.3mm)
pins: 1, 2, 3

## SolderJumper_4_pin_swap
designator J?
footprint Solder_Jumper_4pin_0.2mm (Solder jumper with four pins with a spacing of 0.2mm)
footprint Solder_Jumper_4pin_0.3mm (Solder jumper with four pins with a spacing of 0.3mm)
pins: 1, 2, 3, 4

## SP000063858
designator B?
Broadcom SP000063858, 100MBd Fibre Optic Transmitter 685nm, 24 x 9 x 8.8mm; Manufacturer_Name: Avago Technologies; Manufacturer_Part_Number: SP000063858; RS Part Number: 8019273; RS Price/Stock: http://uk.rs-online.com/web/p/products/8019273; Mouser Part Number: 630-SP000063858; Mouser Price/Stock: https://www.mouser.com/Search/Refine.aspx?Keyword=630-SP000063858; Datasheet Link: https://docs.broadcom.com/docs/AV02-2597EN; ComponentLink1Description: Datasheet; ComponentLink1URL: https://www.broadcom.com/products/fiber-optic-modules-components/industrial/industrial-control-general-purpose/650nm/sfh757v
footprint SP000063858
pins: 1 K, 2 A

## Stereo Jack
designator *
pins: 1, 2, 3

## Summer
designator Q?
pins: 1, 2 (oe)

## SW DIP-1
designator S?
pins: 1 A1, 2 A2

## SW DIP-2
designator S?
pins: 1 A1, 2 A2, 3 A3, 4 A4

## SW-SPDT
designator ?
pins: 1, 2, 3

## SW_16Pos_Gray
designator SW?
Encoderdrehschalter 16 Pos Gray code
footprint HEADER_5_RM_2.54 (Header 5 Pin 2.54mm)
pins: 1, 2, 3, 4, 5

## SW_Sim
designator S?
part A pins: 1 A1, 2 A2
part B pins: 3 A1, 4 A2

## T60404-N4646-X412
designator U?
Vacuumschmelze 50/100 A Current Sensor
footprint T60404-N4646-X412
pins: 1 IP+, 2 IP+, 3 IP+, 4 IP-, 5 IP-, 6 IP-, 7 Is (out), 8 VC+ (power), 9 VC- (power)

## TC2050-IDC
designator CON?
footprint TC2050-IDC-NL (Tag-Connect 10-Pin with No Legs (PN# TC2050-IDC-NL))
pins: 1, 2, 3, 4, 5, 6, 7, 8, 9, 10

## TC7662BCOA
designator *
footprint SOIC8
pins: 1 BOOST (power), 2 CAP+ (power), 3 GND (power), 4 CAP- (power), 5 Vout (power), 6 LV (power), 7 OSC (power), 8 V+ (power)

## TCA9554
designator U?
Low Voltage 8-Bit I2C and SMBus Low-Power I/O Expander; Manufacturer: Texas Instruments; Manufacturer Part Number: TCA9554APWR; Number of I/Os: 8; Frequency: 100kHz; Min Supply Voltage: 1.65V; Max Supply Voltage: 5.5V; Max Frequency: 400kHz; Output Current: 25mA; Number of Receivers: 1; Supplier 1: Mouser; Stock 1: 1291; Pricing 1: 1=1.32, 10=1.12, 50=1.12, 100=0.861, 1000=0.6, 10000=0.512 (USD); Case/Package: TSSOP; Number of Pins: 16; Weight: 0.006102oz; Contact Plating: Gold; Min Operating Temperature: -40°C; Max Operating Temperature: 85°C; Packaging: Tape and Reel; Package Quantity: 2000; Number of Drivers: 1; Radiation Hardening: No; Lead Free: Lead Free; REACH SVHC: No SVHC; ComponentLink1URL: https://datasheet.ciiva.com/4826/scps196a-100148-4826182.pdf; ComponentLink1Description: https://datasheet.ciiva.com/4826/scps196a-100148-4826182.pdf; ComponentLink2URL: https://datasheet.ciiva.com/1496/1634010-1496153.pdf; ComponentLink2Description: https://datasheet.ciiva.com/1496/1634010-1496153.pdf; ComponentLink3URL: https://datasheet.ciiva.com/1780/tca9554a-1780237.pdf; ComponentLink3Description: https://datasheet.ciiva.com/1780/tca9554a-1780237.pdf; ComponentLink4URL: https://datasheet.ciiva.com/15224/getdatasheetpartid-293721-15224021.pdf; ComponentLink4Description: https://datasheet.ciiva.com/15224/getdatasheetpartid-293721-15224021.pdf; ComponentLink5URL: https://datasheet.ciiva.com/14152/tca9554apwr-eng-ds-14152561.pdf; ComponentLink5Description: https://datasheet.ciiva.com/14152/tca9554apwr-eng-ds-14152561.pdf; ComponentLink6URL: https://datasheet.ciiva.com/1600/tca9554a-1600868.pdf; ComponentLink6Description: https://datasheet.ciiva.com/1600/tca9554a-1600868.pdf; ComponentLink7URL: https://datasheet.ciiva.com/41460/001187874-da-01-en-ic-i-o-expander-tca9554apwr-tssop-16-tid-41460549.pdf; ComponentLink7Description: https://datasheet.ciiva.com/41460/001187874-da-01-en-ic-i-o-expander-tca9554apwr-tssop-16-tid-41460549.pdf
footprint TSSOP-16
pins: 1 A0, 2 A1, 3 A2, 4 P0 (io), 5 P1 (io), 6 P2 (io), 7 P3 (io), 8 GND, 9 P4 (io), 10 P5 (io), 11 P6 (io), 12 P7 (io), 13 ~{INT} (out), 14 SCL (in), 15 SDA (io), 16 VCC

## TE-Relay
designator ?
footprint PCB-THT
pins: 1, 2, 3, 4

## TES 1-1212
designator *
footprint TES-1
pins: 1 -Uein (GND), 3 Uein (Vcc), 7 -Uaus, 8 +Uaus

## Testpoint
designator TP?
Testpoint
footprint TP2.54-1.0
footprint TP2.54-1.3
footprint TP4.5-1.5
footprint Testpoint_SMD
footprint Testpunkt
footprint TP_0.5mm (Testpunkt 0.5mm Durchmesser)
footprint TP_1.0mm (Testpunkt 1.0mm Durchmesser)
pins: 1

## THS4504
designator U?
THS4504
footprint SO-8
part A pins: 1 -In, 4 +Out, 5 -Out, 8 +In
part B pins: 3 V+, 6 V-
part C pins: 2 Vo, 7 ~{PD}

## THS4504T
designator U?
THS4504T
footprint DGN-8 (Exposed Thermal Pad)
part A pins: 1 -In, 4 +Out, 5 -Out, 8 +In
part B pins: 3 V+, 6 V-, 9 TP
part C pins: 2 Vo, 7 ~{PD}

## THS4551
designator U?
Low-Noise, / Precision, / 150-MHz, / Fully Differential / Amplifier; ComponentLink1Description: Datasheet; ComponentLink1URL: http://www.ti.com/lit/ds/symlink/ths4551.pdf
footprint SO-8
part A pins: 1 -In, 4 +Out, 5 -Out, 8 +In
part B pins: 3 V+, 6 V-
part C pins: 2 Vo, 7 ~{PD}

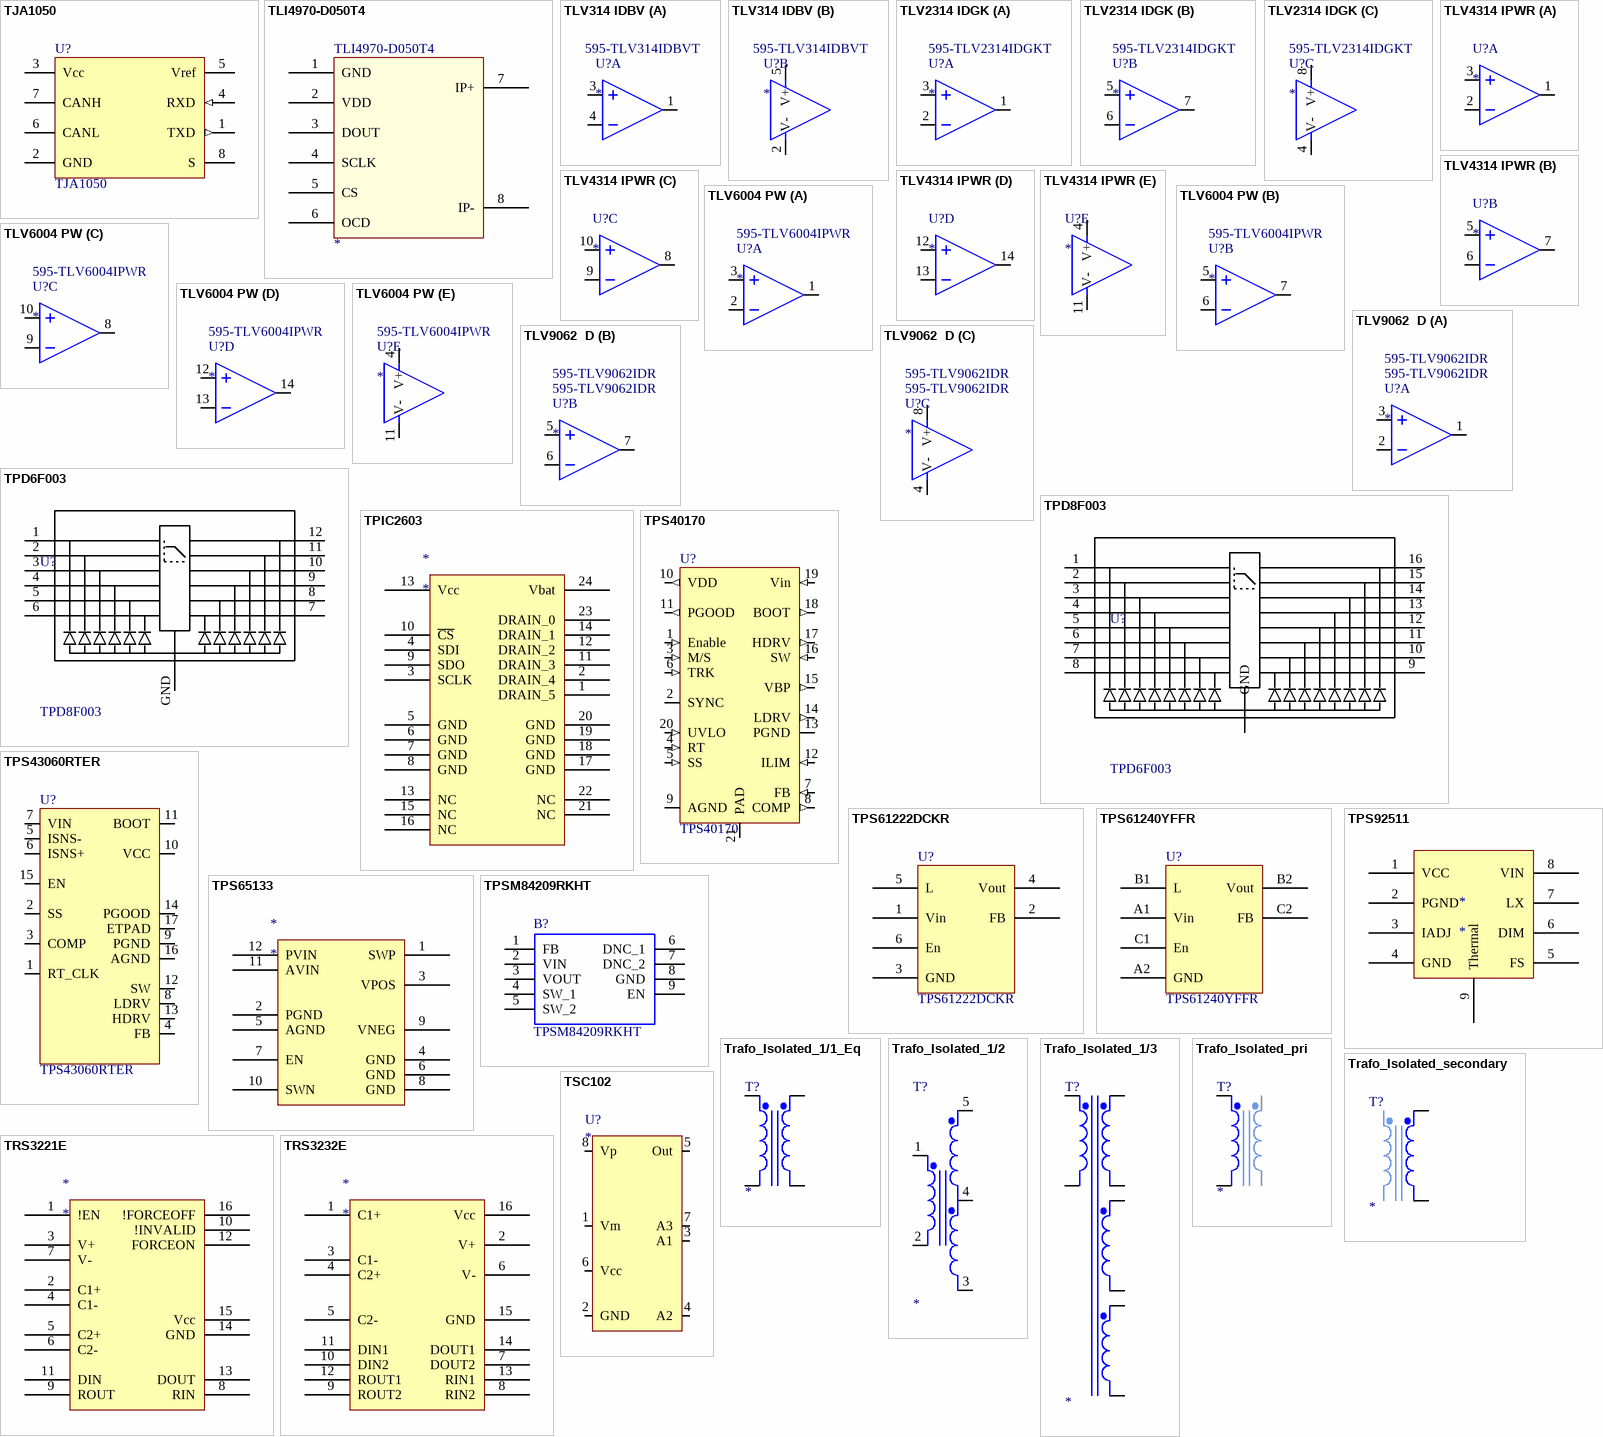
[diagram p18: symbols TJA1050 to TSC102]

## TJA1050
designator U?
NXP TJA1050, CAN Transceiver
pins: 1 TXD (out), 2 GND, 3 Vcc, 4 RXD (in), 5 Vref, 6 CANL, 7 CANH, 8 S

## TLI4970-D050T4
designator *
SMD Current Sensor 50A with SPI
footprint TLI4970-D050T4 (Footprint Current Sensor)
pins: 1 GND, 2 VDD, 3 DOUT, 4 SCLK, 5 CS, 6 OCD, 7 IP+ (power), 8 IP- (power)

## TLV314 IDBV
designator U?  Supplier Part Number 1: 595-TLV314IDBVT
Single OPERATIONAL AMPLIFIERS, Single Supply: 1.8V to 5.5V; Manufacturer: Texas Instruments; Manufacturer Part Number: TLV314IDBVT; Input Offset Voltage (Vos): 750uV; Bandwidth: 3MHz; Input Bias Current: 1pA; Gain Bandwidth Product: 3MHz; Case/Package: SOT-23; Lead Free: Lead Free; Supplier 1: Mouser
footprint SOT23-5
part A pins: 1 Out D, 3 +In D, 4 -In D
part B pins: 2 V-, 5 V+

## TLV2314 IDGK
designator U?  Supplier Part Number 1: 595-TLV2314IDGKT
Dual OPERATIONAL AMPLIFIERS, Single Supply: 1.8V to 5.5V; Manufacturer Part Number: TLV2314IDGKT; Manufacturer: Texas Instruments; Input Offset Voltage (Vos): 750uV; Input Bias Current: 1pA; Gain Bandwidth Product: 3MHz; Case/Package: VSSOP; Lead Free: Lead Free; Bandwidth: 3MHz; Supplier 1: Mouser
footprint VSSOP8_DGK
part A pins: 1 Out D, 2 -In D, 3 +In D
part B pins: 5 +In D, 6 -In D, 7 Out D
part C pins: 4 V-, 8 V+

## TLV4314 IPWR
designator U?
Quad OPERATIONAL AMPLIFIERS, Single Supply: 1.8V to 5.5V
footprint TSSOP14_0.65mm
part A pins: 1 Out A, 2 -In A, 3 +In A
part B pins: 5 +In B, 6 -In B, 7 Out B
part C pins: 8 Out C, 9 -In C, 10 +In C
part D pins: 12 +In D, 13 -In D, 14 Out D
part E pins: 4 V+, 11 V-

## TLV6004 PW
designator U?  Supplier Part Number 1: 595-TLV6004IPWR
Quad OPERATIONAL AMPLIFIERS, Single Supply: 1.8V to 5.5V; Manufacturer: Texas Instruments; Manufacturer Part Number: TLV6004IPWR; Input Bias Current: 1pA; Input Offset Voltage (Vos): 750uV; Gain Bandwidth Product: 1MHz; Supplier 1: Mouser; Lead Free: Lead Free; Case/Package: TSSOP; Max Operating Temperature: 125°C
footprint TSSOP14
part A pins: 1 Out A, 2 -In A, 3 +In A
part B pins: 5 +In B, 6 -In B, 7 Out B
part C pins: 8 Out C, 9 -In C, 10 +In C
part D pins: 12 +In D, 13 -In D, 14 Out D
part E pins: 4 V+, 11 V-

## TLV9062  D
designator U?  Supplier Part Number 1: 595-TLV9062IDR
Dual OPERATIONAL AMPLIFIERS, Single Supply: 1.8V to 5.5V; Manufacturer Part Number: TLV9062IDR; Manufacturer: Texas Instruments; Number of Channels: 2; Supplier 1: Mouser; Supplier: Mouser; Max Operating Temperature: 125°C; Min Operating Temperature: -40°C; Supplier Part Number: 595-TLV9062IDR
footprint SOIC8
part A pins: 1 Out D, 2 -In D, 3 +In D
part B pins: 5 +In D, 6 -In D, 7 Out D
part C pins: 4 V-, 8 V+

## TPD6F003
designator U?, comment TPD8F003
8-Channel EMI Filter for Display Interface
footprint WSON 16Pin
pins: 1, 2, 3, 4, 5, 6, 7, 8, 9, 10, 11, 12, GND

## TPD8F003
designator U?, comment TPD6F003
6-Channel EMI Filter for Display Interface
footprint DSV (DSV Package)
pins: 1, 2, 3, 4, 5, 6, 7, 8, 9, 10, 11, 12, 13, 13 GND, 14, 15, 16

## TPIC2603
designator *
footprint SOIC24
pins: 1 DRAIN_5 (power), 2 DRAIN_4 (power), 3 SCLK (power), 4 SDI (power), 5 GND (power), 6 GND (power), 7 GND (power), 8 GND (power), 9 SDO (power), 10 ~{CS} (power), 11 DRAIN_3 (power), 12 DRAIN_2 (power), 13 Vcc (power), 13 NC (power), 14 DRAIN_1 (power), 15 NC (power), 16 NC (power), 17 GND (power), 18 GND (power), 19 GND (power), 20 GND (power), 21 NC (power), 22 NC (power), 23 DRAIN_0 (power), 24 Vbat (power)

## TPS40170
designator U?
4.5 V to 60 V Wide Input Synchronous PWM Buck Controller
footprint VQFN20
pins: 1 Enable (in), 2 SYNC (io), 3 M/S (in), 4 RT (in), 5 SS (in), 6 TRK (in), 7 FB (in), 8 COMP (out), 9 AGND (power), 10 VDD (out), 11 PGOOD (out), 12 ILIM (in), 13 PGND (power), 14 LDRV (out), 15 VBP (out), 16 SW (in), 17 HDRV (out), 18 BOOT (out), 19 Vin (in), 20 UVLO (in), 21 PAD

## TPS43060RTER
designator U?
footprint WQFN-16 (QFN, 16-Leads, Body 3.15x3.15mm, Pitch 0.50mm, Thermal Pad 0.80x1.20mm, IPC Medium Density)
pins: 1 RT_CLK (power), 2 SS (power), 3 COMP (power), 4 FB (power), 5 ISNS- (power), 6 ISNS+ (power), 7 VIN (power), 8 LDRV (power), 9 PGND (power), 10 VCC (power), 11 BOOT (power), 12 SW (power), 13 HDRV (power), 14 PGOOD (power), 15 EN (power), 16 AGND (power), 17 ETPAD (power)

## TPS61222DCKR
designator U?
Boost Converter 5V
footprint SC-70-6
pins: 1 Vin, 2 FB, 3 GND, 4 Vout, 5 L, 6 En

## TPS61240YFFR
designator U?
5V Boostconverter
footprint DSBGA-6 (5V Boostconverter)
pins: A1 Vin, A2 GND, B1 L, B2 Vout, C1 En, C2 FB

## TPS65133
designator *
pins: 1 SWP, 2 PGND, 3 VPOS, 4 GND, 5 AGND, 6 GND, 7 EN, 8 GND, 9 VNEG, 10 SWN, 11 AVIN, 12 PVIN

## TPS92511
designator *
footprint SOIC-8-T (Exposed Thermal Pad)
pins: 1 VCC, 2 PGND, 3 IADJ, 4 GND, 5 FS, 6 DIM, 7 LX, 8 VIN, 9 Thermal

## TPSM84209RKHT
designator B?
4.5V-28V Input, 1.2V-6.0V Output, 2.5-A Power Module; Manufacturer_Name: Texas Instruments; Geometry.Height: 2.1mm; Manufacturer_Part_Number: TPSM84209RKHT; RS Part Number: *; RS Price/Stock: *; Mouser Part Number: 595-TPSM84209RKHT; Mouser Price/Stock: https://www.mouser.com/Search/Refine.aspx?Keyword=595-TPSM84209RKHT; Datasheet Link: http://www.ti.com/lit/gpn/tpsm84209; ComponentLink1Description: Datasheet; ComponentLink1URL: http://www.ti.com/lit/ds/symlink/tpsm84209.pdf
footprint TPSM84209RKHT
pins: 1 FB, 2 VIN, 3 VOUT, 4 SW_1, 5 SW_2, 6 DNC_1, 7 DNC_2, 8 GND, 9 EN

## Trafo_Isolated_1/1_Eq
designator T?
Transformer (Equivalent Circuit Model); value: *
pins: 1 Pri+, 2 Pri-, 3 Sec+, 4 Sec-

## Trafo_Isolated_1/2
designator T?
value: *
pins: 1 Pri+, 2 Pri-, 3 Sec-, 4 SecMid, 5 Sec+

## Trafo_Isolated_1/3
designator T?
Four-winding Transformer; value: *
simulation model IDEAL4W (Spice Subcircuit)
footprint Trafo_1pr_3sec_B64290L0044_var01 (Transformer with 1 primary winding and 3 secondary windings on core TDK B64290L0044X0 Variant 1)
pins: 1 Pri+, 2 Pri-, 3 Sec1+, 4 Sec1-, 5 Sec2+, 6 Sec2-, 7 Sec3+, 8 Sec3-

## Trafo_Isolated_pri
designator T?
Transformer (Primary winding only); value: *
pins: 1 Pri+, 2 Pri-

## Trafo_Isolated_secondary
designator T?
Transformer (Secondary winding only); value: *
pins: 1 Sec+, 2 Sec-

## TRS3221E
designator *
footprint SOIC16
pins: 1 !EN (power), 2 C1+ (power), 3 V+ (power), 4 C1- (power), 5 C2+ (power), 6 C2- (power), 7 V- (power), 8 RIN (power), 9 ROUT (power), 10 !INVALID (power), 11 DIN (power), 12 FORCEON (power), 13 DOUT (power), 14 GND (power), 15 Vcc (power), 16 !FORCEOFF (power)

## TRS3232E
designator *
footprint SOIC16
pins: 1 C1+ (power), 2 V+ (power), 3 C1- (power), 4 C2+ (power), 5 C2- (power), 6 V- (power), 7 DOUT2 (power), 8 RIN2 (power), 9 ROUT2 (power), 10 DIN2 (power), 11 DIN1 (power), 12 ROUT1 (power), 13 RIN1 (power), 14 DOUT1 (power), 15 GND (power), 16 Vcc (power)

## TSC102
designator U?
Strommessung
pins: 1 Vm, 2 GND, 3 A1, 4 A2, 5 Out, 6 Vcc, 7 A3, 8 Vp

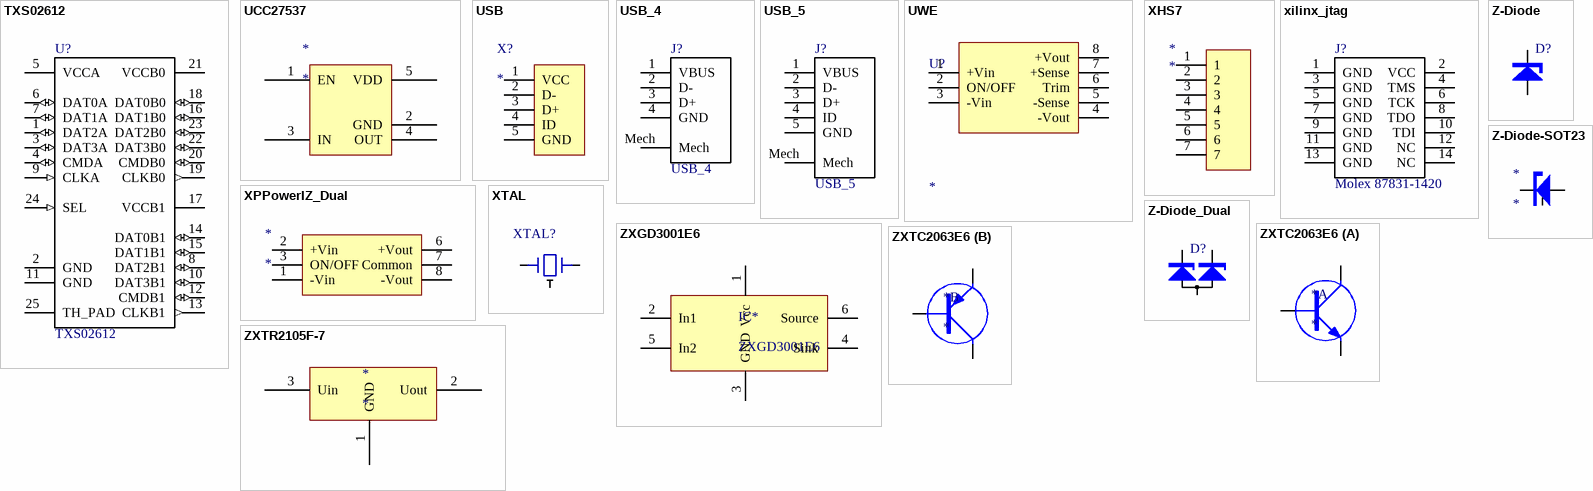
[diagram p19: symbols TXS02612 to ZXTR2105F-7]

## TXS02612
designator U?
SDIO PORT EXPANDER WITH VOLTAGE-LEVEL TRANSLATION
footprint QFN24_0.5
pins: 1 DAT2A (io), 2 GND (power), 3 DAT3A (io), 4 CMDA (io), 5 VCCA (power), 6 DAT0A (io), 7 DAT1A (io), 8 DAT2B1 (io), 9 CLKA (in), 10 DAT3B1 (io), 11 GND (power), 12 CMDB1 (io), 13 CLKB1 (out), 14 DAT0B1 (io), 15 DAT1B1 (io), 16 DAT1B0 (io), 17 VCCB1 (power), 18 DAT0B0 (io), 19 CLKB0 (out), 20 CMDB0 (io), 21 VCCB0 (power), 22 DAT3B0 (io), 23 DAT2B0 (io), 24 SEL (in), 25 TH_PAD

## UCC27537
designator *
footprint SOT23-5
pins: 1 EN (power), 2 GND (power), 3 IN (power), 4 OUT (power), 5 VDD (power)

## USB
designator X?
footprint USB_RCPT_RA_TYPE_B
pins: 1 VCC, 2 D-, 3 D+, 4 ID, 5 GND

## USB_4
designator J?
footprint USB_A_WE_614 004 160 21 (USB 2.0 FEMALE R/A A TYPE)
footprint USB_A_WE_614 004 190 021 (USB 2.0 TYPE A HORIZONTAL THT)
footprint USB_B_WE_614 004 161 21 (USB 2.0 TYPE B)
pins: 1 VBUS, 2 D-, 3 D+, 4 GND, Mech

## USB_5
designator J?
footprint USB_MICRO_AB_WE_629 105 150 921 (WR-COM - MICRO USB 2.0 TYPE AB - HORIZONTAL - SMT)
footprint USB_MINI_AB_WE_651 305 142 821 (MINI USB 2.0 SMT TYPE AB 5 CONTACTS)
footprint USB_MINI_B_WE_651 005 136 521 (MINI USB 2.0 TYPE B 5 CONTACTS)
pins: 1 VBUS, 2 D-, 3 D+, 4 ID, 5 GND, Mech

## UWE
designator U?
footprint UWE
pins: 1 +Vin, 2 ON/OFF, 3 -Vin, 4 -Vout, 5 -Sense, 6 Trim, 7 +Sense, 8 +Vout

## XHS7
designator *
XH-Balancer Connector 7-pol
footprint XHS7 (Balancer-Connector XH-System 7-pol)
pins: 1, 2, 3, 4, 5, 6, 7

## xilinx_jtag
designator J?, comment Molex 87831-1420
footprint molex_87831-1420
pins: 1 GND, 2 VCC, 3 GND, 4 TMS, 5 GND, 6 TCK, 7 GND, 8 TDO, 9 GND, 10 TDI, 11 GND, 12 NC, 13 GND, 14 NC

## XPPowerIZ_Dual
designator *
footprint XPPowerIZ
pins: 1 -Vin, 2 +Vin, 3 ON/OFF, 5 NC hidden to NC, 6 +Vout, 7 Common, 8 -Vout

## XTAL
designator XTAL?  (value not drawn)
Quartz
footprint Xtal_CTS_407
footprint 20MHZ_QUARZ_FA-20H
pins: COVER, XIN, XOUT

## Z-Diode
designator D?  (value not drawn)
footprint SOD-128
pins: A, K

## Z-Diode-SOT23
designator *
footprint SOT-23-Diode
pins: 1, 2, 3

## Z-Diode_Dual
designator D?  (value not drawn)
footprint SOT-23
pins: 1, 2, 3

## ZXGD3001E6
designator IC*
Gate-Treiber
footprint SOT23-6
pins: 1 Vcc, 2 In1, 3 GND, 4 Sink, 5 In2, 6 Source

## ZXTC2063E6
designator *
footprint SOT-26
part A pins: 1 C, 2 B, 6 E
part B pins: 3 C, 4 E, 5 B

## ZXTR2105F-7
designator *
footprint SOT-23
pins: 1 GND, 2 Uout, 3 Uin